# Altium schematic symbol library SCH - OPAMP - ANALOG DEV ADA4927-2.SCHLIB: 1 symbol
Pins are listed as number, name and electrical type; pins without a type are passive.

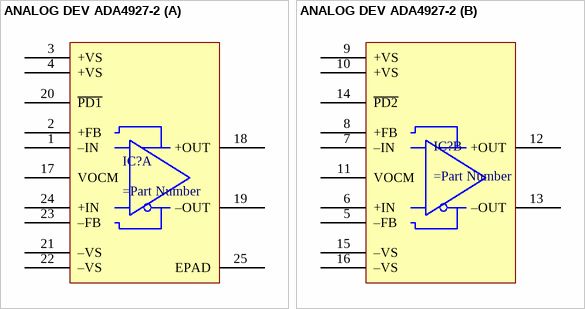
[diagram p0: symbol ANALOG DEV ADA4927-2]

## ANALOG DEV ADA4927-2
designator IC?
part A pins: 1 –IN, 2 +FB, 3 +VS, 4 +VS, 17 VOCM, 18 +OUT, 19 –OUT, 20 ~{PD1}, 21 –VS, 22 –VS, 23 –FB, 24 +IN, 25 EPAD
part B pins: 5 –FB, 6 +IN, 7 –IN, 8 +FB, 9 +VS, 10 +VS, 11 VOCM, 12 +OUT, 13 –OUT, 14 ~{PD2}, 15 –VS, 16 –VS